# Altium integrated library RMCF0402ZT0R00.IntLib: 1 symbol
Pins are listed as number, name and electrical type; pins without a type are passive.

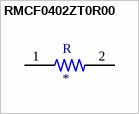
[diagram p0: symbol RMCF0402ZT0R00]

## RMCF0402ZT0R00
designator R
0 Ohms Jumper 0.063W, 1/16W Chip Resistor 0402 _1005 Metric_ Automotive AEC-Q200 Thick Film; MF: Stackpole Electronics; MP: RMCF0402ZT0R00; Value: *; Package: 0402 Stackpole Electronics; SnapEDA_Link: https://www.snapeda.com/parts/RMCF0402ZT0R00/Stackpole%20Electronics%20Inc/view-part/2772568/?ref=snap; Price: None; Availability: Unavailable
footprint RESC1005X40
pins: 1, 2